# EAGLE library part A24001-010 (library con-omnetics)
CONNECTOR wire to board 1.27 mm (0.05") pitch header
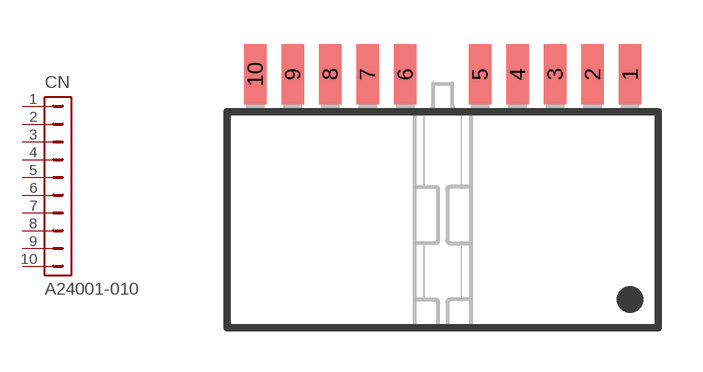
[diagram p12: symbol with the pads of A24001-010; footprint A24001-010]

Designator prefix CN

## A24001-010  [A24001-010]
1  1  pas
2  2  pas
3  3  pas
4  4  pas
5  5  pas
6  6  pas
7  7  pas
8  8  pas
9  9  pas
10  10  pas

## Footprint A24001-010 (pad centres in mm)
Connector SMD right angle, 10 pin
smd 0.762 x 2.032: 1 6.35,5.08; 2 5.08,5.08; 3 3.81,5.08; 4 2.54,5.08; 5 1.27,5.08; 6 -1.27,5.08; 7 -2.54,5.08; 8 -3.81,5.08; 9 -5.08,5.08; 10 -6.35,5.08